# Altium schematic symbol library B3F-1022.SchLib: 1 symbol
Pins are listed as number, name and electrical type; pins without a type are passive.

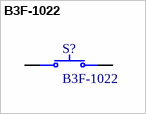
[diagram p0: symbol B3F-1022]

## B3F-1022
designator S?
SWITCH TACTILE SPST-NO 0.05A 24V
footprint B3F-1022; pin to pad 1>1+2 3>3+4
pins: 1 COM, 1 COM, 3 NO, 3 NO